# Altium footprint library TYPEC.PcbLib: 1 footprints
Each footprint in its own frame and in the unit in brackets; x right, y up, seen from the top. Pads: shape width x height; smd on the part's side, far side on the other; paste and mask are expansions set on the pad; w line width, h text height; cw(c..) or ccw(c..) is an arc to the next point about the centre after c.
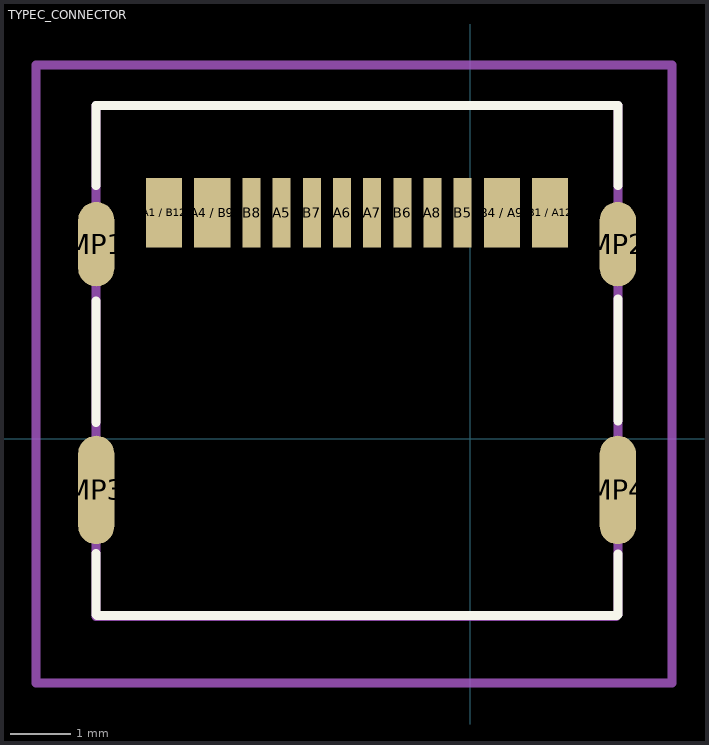
[diagram p0: the footprint, top view; thin cyan lines are the x and y axes]

## TYPEC_CONNECTOR [mm]
pads (16):
  rect 0.6x1.15 smd paste-2539.97: "A1 / B12"(-5.074,3.748)
  rect 0.6x1.15 smd paste+0: "A4 / B9"(-4.274,3.748) "B1 / A12"(1.326,3.748) "B4 / A9"(0.526,3.748)
  rect 0.3x1.15 smd paste+0: A5(-3.124,3.748) A6(-2.124,3.748) A7(-1.626,3.748) A8(-0.624,3.748) B5(-0.124,3.748) B6(-1.124,3.748) B7(-2.624,3.748)
  rect 0.3x1.15 smd paste-2539.97: B8(-3.624,3.748)
  oval 0.6x1.4 all layers, no hole mask-2539.97: MP1(-6.199,3.228)
  oval 0.6x1.4 all layers, no hole paste-2539.97 mask-2539.97: MP2(2.449,3.228)
  oval 0.6x1.8 all layers, no hole paste-2539.97 mask-2539.97: MP3(-6.199,-0.847)
  oval 0.6x1.8 all layers, no hole mask-2539.97: MP4(2.449,-0.847)
Top Overlay:
  lines w0.15: -6.199,-1.897 -6.199,-2.914 -6.182,-2.931 2.432,-2.931 2.449,-2.914 2.449,-1.906 ; -6.199,0.275 -6.199,2.285 ; -6.199,4.2 -6.199,5.524 2.449,5.524 2.45,5.522 2.45,4.201 ; 2.449,2.316 2.449,1.826 2.45,1.825 2.45,0.3
Top Solder:
  lines w1: -6.199,-1.447 -6.199,-0.248 ; -6.199,2.828 -6.199,3.628 ; 2.449,-1.447 2.449,-0.248 ; 2.449,2.828 2.449,3.628
Bottom Solder:
  lines w0.6: -6.199,-1.447 -6.199,-0.248 ; -6.199,2.828 -6.199,3.628 ; 2.449,-1.447 2.449,-0.248 ; 2.449,2.828 2.449,3.628
Top Assembly:
  lines w0.15: -6.199,-2.947 -6.199,-0.847 -6.199,5.228 -6.199,5.53 -6.071,5.53 2.449,5.53 2.449,-0.897 2.449,-2.914 2.415,-2.947 -6.199,-2.947
Top Courtyard:
  lines w0.15: -7.2,-4.05 -7.2,-0.575 -7.2,6.2 3.35,6.2 3.35,-0.025 3.35,-4.05 -7.2,-4.05
3D body "TYPE-C-31-M-12--3DModel-STEP-56544.STEP": height 3.17, standoff -1.13, extent -6.37,-3.625 2.57,4.28